# Altium footprint library PEPLLIB.PcbLib: 78 footprints (part 2 of 5)
Each footprint in its own frame and in the unit in brackets; x right, y up, seen from the top. Pads: shape width x height; smd on the part's side, far side on the other; paste and mask are expansions set on the pad; w line width, h text height; cw(c..) or ccw(c..) is an arc to the next point about the centre after c.
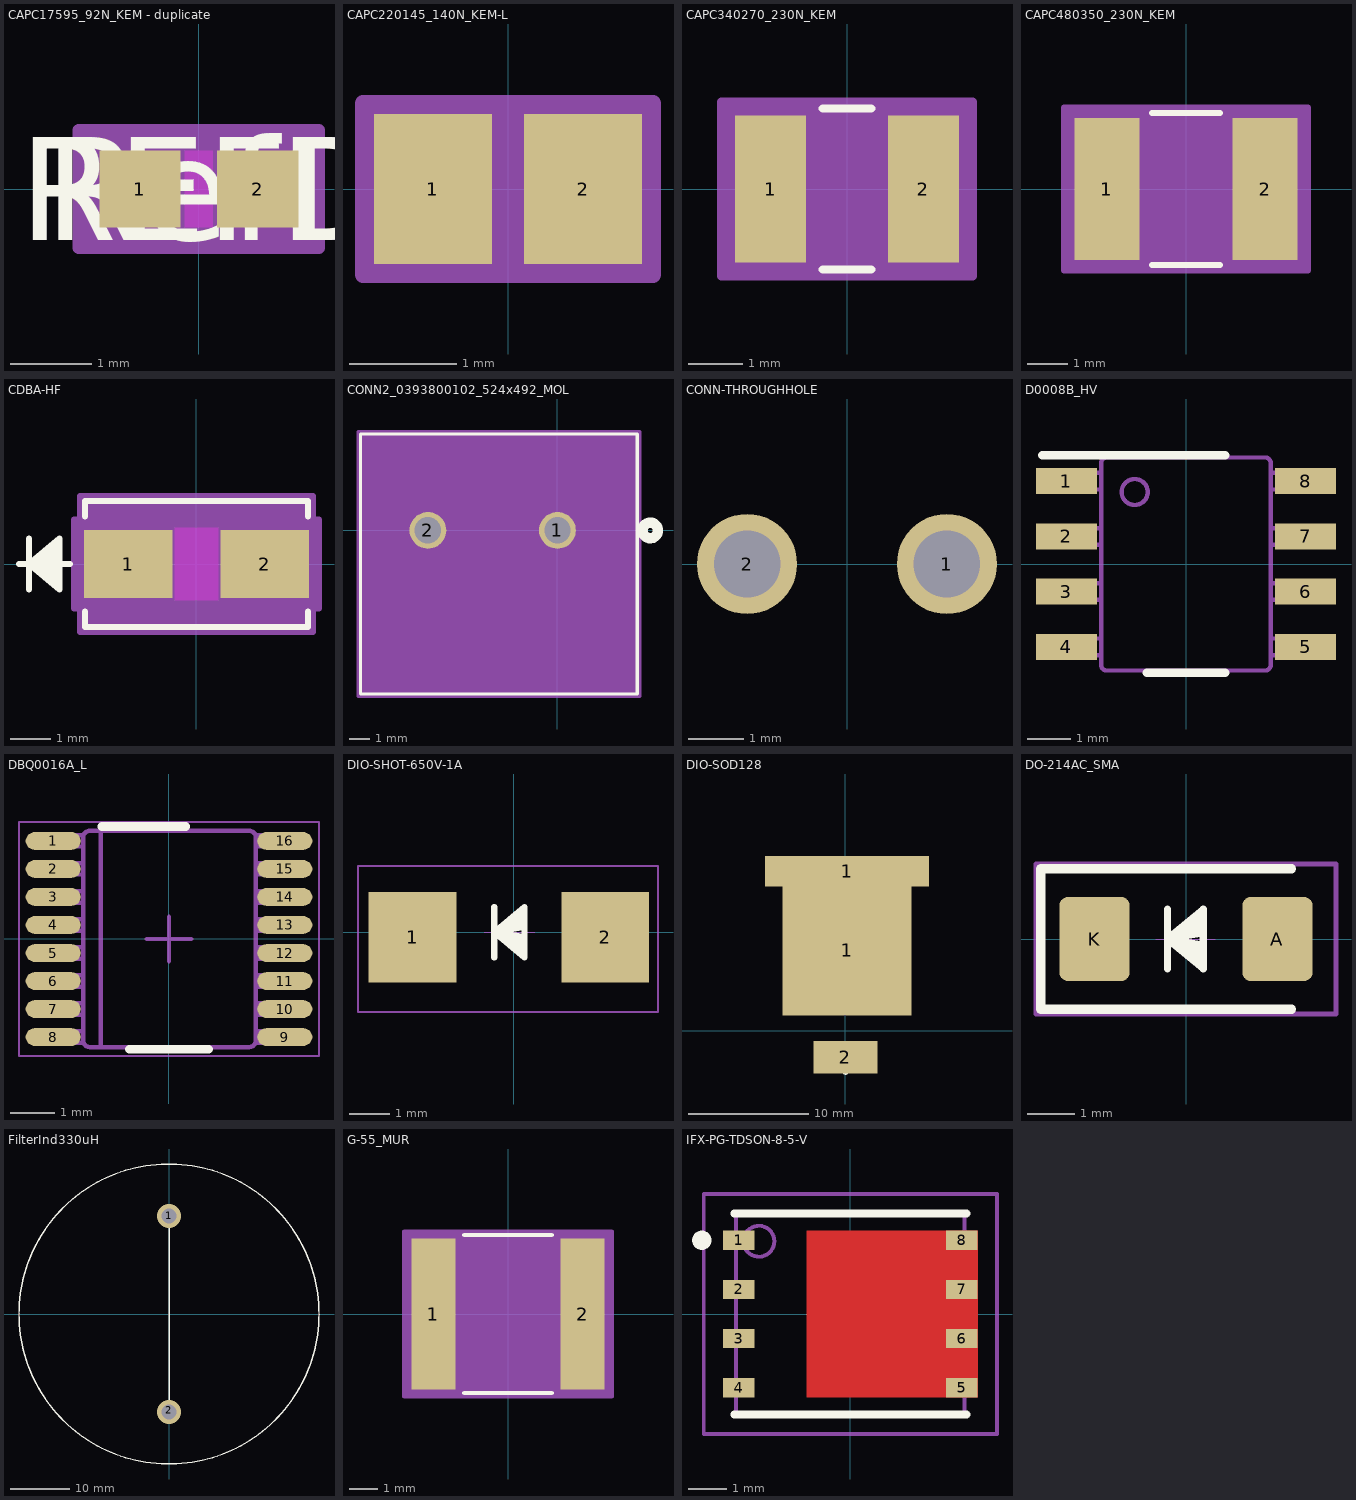
[diagram p1: the footprints below, top view; thin cyan lines are the x and y axes]

## CAPC17595_92N_KEM - duplicate [mm]
pads (2):
  rect 1.006x0.95 smd paste+0 mask+0: 1(-0.728,0) 2(0.728,0)
Top Layer keep-out:
  region: -0.174,-0.424 -0.174,0.424 0.174,0.424 0.174,-0.424
Top Overlay:
  text "RefDes" at -1.905,-0.635 h1.27
  text "REFDES" at -2.222,-0.635 h1.27
Keep-Out Layer:
  region: -0.174,-0.475 -0.174,0.475 0.174,0.475 0.174,-0.475
Mechanical 13:
  lines w0.025: -0.875,-0.475 -0.875,0.475 ; -0.875,-0.475 -0.375,-0.475 -0.375,0.475 -0.875,0.475 ; -0.875,-0.475 0.875,-0.475 ; -0.875,-0.475 -0.875,0.475 ; -0.875,0.475 0.875,0.475 ; 0.875,-0.475 0.375,-0.475 0.375,0.475 0.875,0.475 ; 0.875,-0.475 0.875,0.475 ; 0.875,-0.475 0.875,0.475
  text "RefDes2" at -2.222,-0.635 h1.27
Mechanical 15:
  region: 1.485,-0.729 -1.485,-0.729 -1.485,0.729 1.485,0.729
  lines w0.152: -1.485,-0.729 -1.485,0.729 1.485,0.729 1.485,-0.729 -1.485,-0.729
3D body "CAPC17595_92N_KEM.step": height 0.92, standoff 0, extent -0.875,-0.475 0.875,0.475

## CAPC220145_140N_KEM-L [mm]
pads (2):
  rect 1.102x1.399 smd paste+0 mask+0: 1(-0.701,0) 2(0.701,0)
Mechanical 13:
  lines w0.025: -1.1,-0.725 -1.1,0.725 ; -1.1,-0.725 1.1,-0.725 ; -1.1,-0.725 -0.35,-0.725 -0.35,0.725 -1.1,0.725 ; -1.1,-0.725 -1.1,0.725 ; -1.1,0.725 1.1,0.725 ; 1.1,-0.725 1.1,0.725 ; 1.1,-0.725 1.1,0.725 ; 1.1,-0.725 0.35,-0.725 0.35,0.725 1.1,0.725
Mechanical 15:
  region: 1.354,-0.801 -1.354,-0.801 -1.354,0.801 1.354,0.801
  lines w0.152: -1.354,-0.801 1.354,-0.801 1.354,0.801 -1.354,0.801 -1.354,-0.801
3D body "CAPC220145_140N_KEM.step": height 1.4, standoff 0, extent -1.1,-0.725 1.1,0.725

## CAPC340270_230N_KEM [mm]
pads (2):
  rect 1.306x2.7 smd paste+0 mask+0: 1(-1.403,0) 2(1.403,0)
Top Overlay:
  lines w0.152: -0.442,-1.477 0.442,-1.477 ; -0.442,1.477 0.442,1.477
Mechanical 13:
  lines w0.025: -1.7,-1.35 -1.7,1.35 ; -1.7,-1.35 -0.95,-1.35 -0.95,1.35 -1.7,1.35 ; -1.7,-1.35 1.7,-1.35 ; -1.7,-1.35 -1.7,1.35 ; -1.7,1.35 1.7,1.35 ; 1.7,-1.35 0.95,-1.35 0.95,1.35 1.7,1.35 ; 1.7,-1.35 1.7,1.35 ; 1.7,-1.35 1.7,1.35
Mechanical 15:
  region: 2.31,-1.604 -2.31,-1.604 -2.31,1.604 2.31,1.604
  lines w0.152: -2.31,-1.604 -2.31,1.604 2.31,1.604 2.31,-1.604 -2.31,-1.604
3D body "CAPC340270_230N_KEM.step": height 2.3, standoff 0, extent -1.7,-1.35 1.7,1.35

## CAPC480350_230N_KEM [mm]
pads (2):
  rect 1.606x3.5 smd paste+0 mask+0: 1(-1.953,0) 2(1.953,0)
Top Overlay:
  lines w0.152: -0.842,-1.877 0.842,-1.877 ; -0.842,1.877 0.842,1.877
Mechanical 13:
  lines w0.025: -2.4,-1.75 -2.4,1.75 ; -2.4,-1.75 2.4,-1.75 ; -2.4,-1.75 -1.45,-1.75 -1.45,1.75 -2.4,1.75 ; -2.4,-1.75 -2.4,1.75 ; -2.4,1.75 2.4,1.75 ; 2.4,-1.75 2.4,1.75 ; 2.4,-1.75 2.4,1.75 ; 2.4,-1.75 1.45,-1.75 1.45,1.75 2.4,1.75
Mechanical 15:
  region: 3.01,-2.004 -3.01,-2.004 -3.01,2.004 3.01,2.004
  lines w0.152: -3.01,-2.004 3.01,-2.004 3.01,2.004 -3.01,2.004 -3.01,-2.004
3D body "CAPC480350_230N_KEM.step": height 2.3, standoff 0, extent -2.4,-1.75 2.4,1.75

## CDBA-HF [mil]
pads (2):
  rect 87x67 smd paste+0 mask+0: 1(-67,0) 2(67,0)
Top Overlay:
  lines w6: -174.5,0 -124.5,0 ; -164.5,-25 -164.5,25 ; -134.5,-20 -164.5,0 ; -134.5,-15 -164.5,0 ; -134.5,-10 -164.5,0 ; -134.5,-5 -164.5,0 ; -134.5,5 -164.5,0 ; -134.5,10 -164.5,0 ; -134.5,15 -164.5,0 ; -134.5,20 -164.5,0 ; -109.5,-46.6 -109.5,-62 109.5,-62 109.5,-46.6 ; -109.5,46.6 -109.5,62 109.5,62 109.5,46.6 ; -164.5,0 -134.5,25 -134.5,-25 -164.5,0
Keep-Out Layer:
  region: -21.5,-35.5 -21.5,35.5 21.5,35.5 21.5,-35.5
Mechanical 13:
  lines w1: -174.5,0 -124.5,0 ; -164.5,-25 -164.5,25 ; -134.5,-20 -164.5,0 ; -134.5,-15 -164.5,0 ; -134.5,-10 -164.5,0 ; -134.5,-5 -164.5,0 ; -134.5,5 -164.5,0 ; -134.5,10 -164.5,0 ; -134.5,15 -164.5,0 ; -134.5,20 -164.5,0 ; -164.5,0 -134.5,25 -134.5,-25 -164.5,0 ; -104.5,-57 104.5,-57 104.5,57 -104.5,57 -104.5,-57
Mechanical 15:
  region: -114.5,-43.5 -120.5,-43.5 -120.5,43.5 -114.5,43.5 -114.5,67 114.5,67 114.5,43.5 120.5,43.5 120.5,-43.5 114.5,-43.5 114.5,-67 -114.5,-67
  lines w6: -120.5,-43.5 -120.5,43.5 -114.5,43.5 -114.5,67 114.5,67 114.5,43.5 120.5,43.5 120.5,-43.5 114.5,-43.5 114.5,-67 -114.5,-67 -114.5,-43.5 -120.5,-43.5
3D body "CDBA-HF.step": height 100, standoff 0, extent -104.49,-57.01 104.49,57.01

## CONN2_0393800102_524x492_MOL [mil]
pads (2):
  round 71 / inner round 60 / far side round 71 hole 51 paste-99999 mask+0: 1(0,0) 2(-250,0)
Top Overlay:
  circle w20: c179,0 r15
  lines w6: -380,-315.9 154,-315.9 154,186.1 -380,186.1 -380,-315.9
Bottom Overlay:
  circle w20: c179,0 r15
Mechanical 13:
  circle w20: c0,75 r15
  lines w1: -375,-310.9 149,-310.9 149,181.1 -375,181.1 -375,-310.9
Mechanical 15:
  region: 159,191.1 -385,191.1 -385,-320.9 159,-320.9
  lines w6: -385,-320.9 -385,191.1 159,191.1 159,-320.9 -385,-320.9
3D body "393800102.stp": height 846, standoff -217, extent -372.24,-314.96 151.76,177.04

## CONN-THROUGHHOLE [mm]
pads (2):
  round 1.803 / inner round 1.524 / far side round 1.803 hole 1.2 paste-2539.97 mask+0: 1(1.8,0) 2(-1.8,0)

## D0008B_HV [mm]
pads (8):
  rect 1.4x0.6 smd paste+0 mask+0: 1(-2.75,1.905) 2(-2.75,0.635) 3(-2.75,-0.635) 4(-2.75,-1.905) 5(2.75,-1.905) 6(2.75,-0.635) 7(2.75,0.635) 8(2.75,1.905)
Top Overlay:
  lines w0.2: -3.3,2.5 0.9,2.5 ; -0.9,-2.5 0.9,-2.5
Mechanical 13:
  lines w0.1: -2.375,-2.095 -1.995,-2.095 -1.952,-2.095 -1.952,-1.715 -1.995,-1.715 -2.375,-1.715 ; -2.375,-2.095 -2.589,-2.095 -3.002,-2.095 -3.002,-1.715 -2.589,-1.715 -2.375,-1.715 ; -2.375,-2.095 -2.375,-1.715 ; -2.375,-0.825 -1.995,-0.825 -1.952,-0.825 -1.952,-0.445 -1.995,-0.445 -2.375,-0.445 ; -2.375,-0.825 -2.589,-0.825 -3.002,-0.825 -3.002,-0.445 -2.589,-0.445 -2.375,-0.445 ; -2.375,-0.825 -2.375,-0.445 ; -2.375,0.445 -1.995,0.445 -1.952,0.445 -1.952,0.825 -1.995,0.825 -2.375,0.825 ; -2.375,0.445 -2.589,0.445 -3.002,0.445 -3.002,0.825 -2.589,0.825 -2.375,0.825 ; -2.375,0.445 -2.375,0.825 ; -2.375,1.715 -1.995,1.715 -1.952,1.715 -1.952,2.095 -1.995,2.095 -2.375,2.095 ; -2.375,1.715 -2.589,1.715 -3.002,1.715 -3.002,2.095 -2.589,2.095 -2.375,2.095 ; -2.375,1.715 -2.375,2.095 ; -0.332,-2.45 -1.825,-2.45 -1.826,-2.45 cw(c-1.825,-2.323) -1.952,-2.324 -1.952,-2.323 -1.952,2.323 -1.952,2.324 cw(c-1.825,2.323) -1.826,2.45 -1.825,2.45 -0.332,2.45 ; -0.332,-2.45 -0.182,-2.45 ; -0.332,-2.45 -0.182,-2.45 ; -0.332,2.45 -0.182,2.45 ; -0.332,2.45 -0.182,2.45 ; -0.182,-2.45 0.178,-2.45 ; -0.182,2.45 0.178,2.45 ; 0.178,-2.45 0.328,-2.45 ; 0.178,-2.45 0.328,-2.45 ; 0.178,2.45 0.328,2.45 ; 0.178,2.45 0.328,2.45 ; 0.328,-2.45 1.821,-2.45 1.822,-2.45 ccw(c1.821,-2.323) 1.948,-2.324 1.948,-2.323 1.948,2.323 1.948,2.324 ccw(c1.821,2.323) 1.822,2.45 1.821,2.45 0.328,2.45 ; 2.371,-2.095 2.585,-2.095 2.998,-2.095 2.998,-1.715 2.585,-1.715 2.371,-1.715 ; 2.371,-2.095 1.991,-2.095 1.948,-2.095 1.948,-1.715 1.991,-1.715 2.371,-1.715 ; 2.371,-2.095 2.371,-1.715 ; 2.371,-0.825 2.585,-0.825 2.998,-0.825 2.998,-0.445 2.585,-0.445 2.371,-0.445 ; 2.371,-0.825 1.991,-0.825 1.948,-0.825 1.948,-0.445 1.991,-0.445 2.371,-0.445 ; 2.371,-0.825 2.371,-0.445 ; 2.371,0.445 2.585,0.445 2.998,0.445 2.998,0.825 2.585,0.825 2.371,0.825 ; 2.371,0.445 1.991,0.445 1.948,0.445 1.948,0.825 1.991,0.825 2.371,0.825 ; 2.371,0.445 2.371,0.825 ; 2.371,1.715 2.585,1.715 2.998,1.715 2.998,2.095 2.585,2.095 2.371,2.095 ; 2.371,1.715 1.991,1.715 1.948,1.715 1.948,2.095 1.991,2.095 2.371,2.095 ; 2.371,1.715 2.371,2.095 ; -1.18,1.356 cw(c-1.18,1.656) -1.18,1.956 cw(c-1.18,1.656) -1.18,1.356

## DBQ0016A_L [mm]
pads (16):
  oval 1.25x0.4 smd paste+0 mask+0: 1(-2.625,2.222) 2(-2.625,1.587) 3(-2.625,0.953) 4(-2.625,0.318) 5(-2.625,-0.318) 6(-2.625,-0.953) 7(-2.625,-1.587) 8(-2.625,-2.222) 9(2.625,-2.222) 10(2.625,-1.587) 11(2.625,-0.953) 12(2.625,-0.318) 13(2.625,0.318) 14(2.625,0.953) 15(2.625,1.587) 16(2.625,2.222)
Top Overlay:
  lines w0.2: -1.525,2.55 0.375,2.55 ; -0.9,-2.5 0.9,-2.5
Mechanical 13:
  drawing of 209 lines, arcs and shapes, not listed
Mechanical 15:
  lines w0.05: -3.4,-2.65 -3.4,2.65 3.4,2.65 3.4,-2.65 -3.4,-2.65
  lines w0.1: -0.5,0 0.5,0 ; 0,-0.5 0,0.5
3D body "DBQ0016A.stp": height 1.62, standoff 0, extent -3.011,-2.451 3.011,2.451

## DIO-SHOT-650V-1A [mm]
pads (2):
  rect 2.2x2.26 / inner rect 0x0 / far side rect 0x0 all layers, no hole paste-2539.97: 1(-2.54,-0.127) 2(2.286,-0.127)
Top Overlay:
  lines w0.152: -0.495,-0.635 -0.495,0.635 ; 0.267,-0.508 -0.495,0 ; 0.267,-0.381 -0.495,0 ; 0.267,-0.254 -0.495,0 ; 0.267,-0.127 -0.495,0 ; 0.267,0.127 -0.495,0 ; 0.267,0.254 -0.495,0 ; 0.267,0.381 -0.495,0 ; 0.267,0.508 -0.495,0 ; -0.495,0 0.267,-0.635 0.267,0.635 -0.495,0
Mechanical 13:
  lines w0.025: -0.749,0 0.521,0 ; -0.495,-0.635 -0.495,0.635 ; 0.267,-0.508 -0.495,0 ; 0.267,-0.381 -0.495,0 ; 0.267,-0.254 -0.495,0 ; 0.267,-0.127 -0.495,0 ; 0.267,0.127 -0.495,0 ; 0.267,0.254 -0.495,0 ; 0.267,0.381 -0.495,0 ; 0.267,0.508 -0.495,0 ; -0.495,0 0.267,0.635 0.267,-0.635 -0.495,0
Mechanical 15:
  lines w0.05: 3.6,-2 -3.908,-2 -3.908,1.658 3.6,1.658 ; 3.608,-2 3.608,-1.086 3.608,0.743 3.608,1.658

## DIO-SOD128 [mm]
pads (3):
  rect 10.8x10.92 smd: 1(0.127,6.731)
  rect 13.72x2.54 smd: 1(0.127,13.335)
  rect 5.33x2.7 smd: 2(0,-2.2)
Top Overlay:
  circle w0.25: c0,-3.429 r0.125

## DO-214AC_SMA [mm]
pads (2):
  rrect25% 1.5x1.8 smd: A(1.95,0) K(-1.95,0)
Top Overlay:
  lines w0.152: -0.395,-0.635 -0.395,0.635 ; 0.367,-0.508 -0.395,0 ; 0.367,-0.381 -0.395,0 ; 0.367,-0.254 -0.395,0 ; 0.367,-0.127 -0.395,0 ; 0.367,0.127 -0.395,0 ; 0.367,0.254 -0.395,0 ; 0.367,0.381 -0.395,0 ; 0.367,0.508 -0.395,0 ; -0.395,0 0.367,0.635 0.367,-0.635 -0.395,0
  lines w0.2: 2.25,-1.5 -3.1,-1.5 -3.1,1.5 2.25,1.5
Mechanical 13:
  lines w0.025: -0.649,0 0.621,0 ; -0.395,-0.635 -0.395,0.635 ; 0.367,-0.508 -0.395,0 ; 0.367,-0.381 -0.395,0 ; 0.367,-0.254 -0.395,0 ; 0.367,-0.127 -0.395,0 ; 0.367,0.127 -0.395,0 ; 0.367,0.254 -0.395,0 ; 0.367,0.381 -0.395,0 ; 0.367,0.508 -0.395,0 ; -0.395,0 0.367,-0.635 0.367,0.635 -0.395,0
Mechanical 15:
  lines w0.1: -3.2,-1.6 3.2,-1.6 3.2,1.6 -3.2,1.6 -3.2,-1.6
3D body "p25_SMA_DO-214AC.stp": height 2.17, standoff 0, extent -2.525,-1.35 2.525,1.35

## FilterInd330uH [mm]
pads (2):
  rect 2.2x2.26 all layers, no hole paste-2539.97: 1(0,16.6) 2(0,-16.3)
via 0,16.6 diameter 4 hole 2.54
via 0,-16.6 diameter 4 hole 2.54
Top Overlay:
  circle w0.254: c0,0 r25.4
  lines w0.254: 0,-16.6 0,16.67

## G-55_MUR [mil]
pads (2):
  rect 61x209 smd paste+0 mask+0: 1(-103.5,0) 2(103.5,0)
Top Overlay:
  lines w6: -60.89,-109.5 60.89,-109.5 ; -60.89,109.5 60.89,109.5
Mechanical 13:
  lines w1: -120,-104.5 -120,104.5 ; -120,-104.5 120,-104.5 ; -120,-104.5 -73,-104.5 -73,104.5 -120,104.5 ; -120,-104.5 -120,104.5 ; -120,104.5 120,104.5 ; 120,-104.5 120,104.5 ; 120,-104.5 120,104.5 ; 120,-104.5 73,-104.5 73,104.5 120,104.5
Mechanical 15:
  region: 144,-114.5 -144,-114.5 -144,114.5 144,114.5
  lines w6: -144,-114.5 144,-114.5 144,114.5 -144,114.5 -144,-114.5
3D body "G-55_MUR.step": height 252.01, standoff 0, extent -120,-104.49 120,104.49

## Heatsink-1 [mm] "DCC5923L-23B"
3D body "ubr35-20bc.stp": height 20, standoff 0, extent -23.578,-23.578 23.378,23.378

## IFX-PG-TDSON-8-5-V [mm] "TDSON 8, SMD, 1.27 mm Pitch, 8 Pin, 5.90 mm L X 5.15 mm W X 1.00 mm H body"
height 1
pads (8):
  rect 0.815x0.5 smd paste-0.05 mask+0: 1(-2.88,1.905) 2(-2.88,0.635) 3(-2.88,-0.635) 4(-2.88,-1.905)
  rect 0.815x0.5 smd paste-0.05 mask-0.3: 5(2.88,-1.905) 6(2.88,-0.635) 7(2.88,0.635) 8(2.88,1.905)
Top Layer:
  region: -1.13,-2.155 3.29,-2.155 3.29,2.155 -1.13,2.155
Top Overlay:
  circle w0.25: c-3.837,1.905 r0.125
  lines w0.2: -3,-2.6 3,-2.6 ; -3,2.6 3,2.6
Top Paste:
  region: 0.825,-1.8 2.325,-1.8 2.325,-0.1 0.825,-0.1
  region: -0.875,-1.8 0.625,-1.8 0.625,-0.1 -0.875,-0.1
  region: 0.825,0.1 2.325,0.1 2.325,1.8 0.825,1.8
  region: -0.875,0.1 0.625,0.1 0.625,1.8 -0.875,1.8
Top Solder:
  region: -1.129,-2.155 3.291,-2.155 3.291,-1.655 2.526,-1.655 2.526,-0.885 3.291,-0.885 3.291,-0.385 2.526,-0.385 2.526,0.385 3.291,0.385 3.291,0.885 2.526,0.885 2.526,1.655 3.291,1.655 3.291,2.155 -1.129,2.155
Mechanical 3:
  text ".DESIGNATOR" at -3.643,-0.385 h1.2
Mechanical 13:
  circle w0.1: c-2.363,1.88 r0.4
  lines w0.1: -2.95,-2.575 2.95,-2.575 2.95,2.575 -2.95,2.575 -2.95,-2.575
Mechanical 15:
  lines w0.1: -0.5,0 0.5,0 ; 0,-0.5 0,0.5 ; -3.787,-3.1 3.79,-3.1 3.79,3.1 -3.787,3.1 -3.787,-3.1
3D body "PG-TDSON-8-5_Z8B00003242_V11_3D.stp": height 1.01, standoff 0, extent -3.075,-2.695 3.075,2.695